# Altium footprint library Connectors_SMT.PcbLib: 2 footprints
Each footprint in its own frame and in the unit in brackets; x right, y up, seen from the top. Pads: shape width x height; smd on the part's side, far side on the other; paste and mask are expansions set on the pad; w line width, h text height; cw(c..) or ccw(c..) is an arc to the next point about the centre after c.
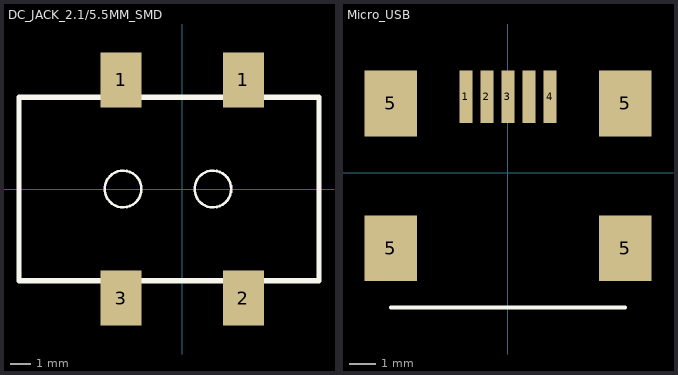
[diagram p0: the footprints below, top view; thin cyan lines are the x and y axes]

## DC_JACK_2.1/5.5MM_SMD [mm]
height 11
pads (4):
  rect 2x2.7 smd: 1(-3,5.35) 1(3,5.35) 2(3,-5.35) 3(-3,-5.35)
Top Overlay:
  circle w0.127: c1.5,0 r0.9
  circle w0.127: c-2.9,0 r0.9
  lines w0.254: -8,-4.5 6.7,-4.5 6.7,4.5 -8,4.5 -8,-4.5
3D body: height 11, standoff -1.2, extent -8.001,-6.3 6.799,6.3

## Micro_USB [mm]
pads (9):
  rect 0.5x2 smd: 1(-1.6,2.875) 2(-0.8,2.875) 3(0,2.875) 4(1.6,2.875) ""(0.8,2.875)
  rect 2x2.5 smd: 5(-4.45,-2.875) 5(-4.45,2.625) 5(4.45,-2.875) 5(4.45,2.625)
Top Overlay:
  lines w0.152: -4.45,-5.125 4.45,-5.125
3D body: height 2.68, standoff -0.63, extent -4.1,-2.78 4.1,2.65